# Altium schematic symbol library nRF8001.Schlib: 1 symbol
Pins are listed as number, name and electrical type; pins without a type are passive.

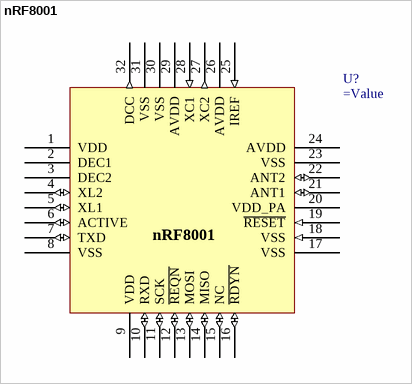
[diagram p0: symbol nRF8001]

## nRF8001
designator U?
IC BLE(4.0)
pins: 1 VDD (power), 2 DEC1 (power), 3 DEC2 (power), 4 XL2 (io), 5 XL1 (io), 6 ACTIVE (io), 7 TXD (io), 8 VSS (power), 9 VDD (power), 10 RXD (io), 11 SCK (io), 12 ~{REQN} (io), 13 MOSI (io), 14 MISO (io), 15 NC (io), 16 ~{RDYN} (io), 17 VSS (power), 18 VSS (in), 19 ~{RESET} (in), 20 VDD_PA (power), 21 ANT1 (io), 22 ANT2 (io), 23 VSS (power), 24 AVDD (power), 25 IREF (in), 26 AVDD (power), 27 XC2 (out), 28 XC1 (in), 29 AVDD (power), 30 VSS (power), 31 VSS (power), 32 DCC (out), 33 GND hidden to GND